# EAGLE library part THAT4305 (library that-corp)
Pre-trimmed Analog Engine® IC
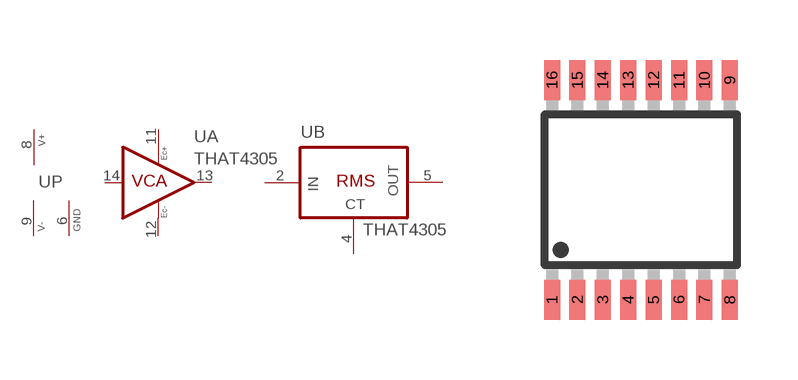
[diagram p5: symbol with the pads of QSOP16; footprint QSOP16]

Designator prefix U; gates B=RMS P=PWRN_+-G A=VCA

## THAT4305Q16-U  [QSOP16]
2  B:RMS_IN  in
4  B:CT  pas
5  B:RMS_OUT  out
6  P:GND  pwr
8  P:V+  pwr
9  P:V-  pwr
11  A:EC+  pas
12  A:EC-  pas
13  A:VCA_OUT  out
14  A:VCA_IN  in

## Footprint QSOP16 (pad centres in mm)
QSOP-16
smd 0.4 x 1: 1 -2.223,-2.75; 2 -1.588,-2.75; 3 -0.953,-2.75; 4 -0.318,-2.75; 5 0.318,-2.75; 6 0.953,-2.75; 7 1.588,-2.75; 8 2.223,-2.75; 9 2.223,2.75; 10 1.588,2.75; 11 0.953,2.75; 12 0.318,2.75; 13 -0.318,2.75; 14 -0.953,2.75; 15 -1.588,2.75; 16 -2.223,2.75